# EAGLE library part 66201021122 (library Wire-to-Board (rev18a))
WR-MPC3 3.00mm Male Dual Row Vertical Header, 10 Pins=>Code : Con_WTB_MPC3_2_PCB_THT_66201021122 <http://katalog.we-online.de/media/thumbs2/eican/thb_Con_WTB_MPC3_2_PCB_THT_6620xx21122_pf2.jpg> Details see: http://katalog.we-online.de/en/em/MPC3_3_00_MALE_DUAL_ROW_VERTICAL_HEADER_6620XX21122 Created 2014-06-06, Karrer Zheng 2014 (C) Würth Elektronik
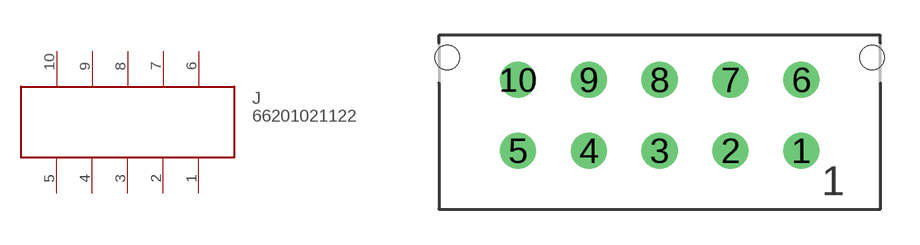
[diagram p350: symbol with the pads of 66201021122; footprint 66201021122]

Designator prefix J

## 66201021122  [66201021122]
1  1
2  2
3  3
4  4
5  5
6  6
7  7
8  8
9  9
10  10

## Footprint 66201021122 (pad centres in mm)
WR-MPC3-3.00mm Male Dual Row Vertical Header,10 pins
drill 1.02: 1 6,-1.5; 2 3,-1.5; 3 0,-1.5; 4 -3,-1.5; 5 -6,-1.5; 6 6,1.5; 7 3,1.5; 8 0,1.5; 9 -3,1.5; 10 -6,1.5
hole 1.02 at -9,2.44
hole 1.02 at 9,2.44